# Altium schematic symbol library SL_Transistors.SchLib: 5 symbols
Pins are listed as number, name and electrical type; pins without a type are passive.

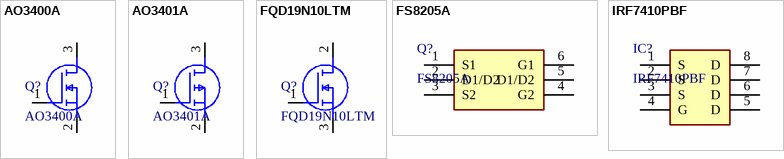
[diagram p0: symbols AO3400A to IRF7410PBF]

## AO3400A
designator Q?
MOSFET (N-Channel); Manufacturer_Name: Alpha & Omega Semiconductors; Datasheet Link: http://aosmd.com/res/data_sheets/AO3400A.pdf; Height: 1.25mm; Manufacturer_Part_Number: AO3400A; Arrow Part Number: AO3400A; Arrow Price/Stock: https://www.arrow.com/en/products/ao3400a/alpha-and-omega-semiconductor?region=nac
footprint SOT95P280X125-3N
pins: 1 G, 2 S, 3 D

## AO3401A
designator Q?
MOSFET (P-Channel); Manufacturer_Name: Alpha & Omega Semiconductors; Datasheet Link: http://www.aosmd.com/pdfs/datasheet/AO3401A.pdf; Height: 1.25mm; Manufacturer_Part_Number: AO3401A; Arrow Part Number: AO3401A; Arrow Price/Stock: https://www.arrow.com/en/products/ao3401a/alpha-and-omega-semiconductor?region=nac
footprint SOT95P280X125-3N
pins: 1 G, 2 S, 3 D

## FQD19N10LTM
designator Q?
MOSFET (N-Channel); Manufacturer_Name: onsemi; Datasheet Link: https://www.onsemi.com/pub/Collateral/FQD19N10L-D.PDF; Height: 2.517mm; Manufacturer_Part_Number: FQD19N10LTM; Mouser Part Number: 512-FQD19N10LTM; Mouser Price/Stock: https://www.mouser.com/Search/Refine.aspx?Keyword=512-FQD19N10LTM; Arrow Part Number: FQD19N10LTM; Arrow Price/Stock: https://www.arrow.com/en/products/fqd19n10ltm/on-semiconductor?region=nac
footprint FQD19N10LTM
pins: 1 G, 2 D, 3 S

## FS8205A
designator Q?
MOSFET (N-Channel); Manufacturer_Name: TECH PUBLIC; Datasheet Link: http://www.techpublic.com.tw/pdf/FS8205A.pdf; Height: 1.25mm; Manufacturer_Part_Number: FS8205A
footprint SOT95P280X125-6N
pins: 1 S1, 2 D1/D2, 3 S2, 4 G2, 5 D1/D2, 6 G1

## IRF7410PBF
designator IC?
MOSFET (P-Channel); Manufacturer_Name: Infineon; Datasheet Link: https://www.mouser.com/datasheet/2/196/irf7410pbf-1227435.pdf; Height: 1.75mm; Manufacturer_Part_Number: IRF7410PBF; Mouser Part Number: 942-IRF7410PBF; Mouser Price/Stock: https://www.mouser.co.uk/ProductDetail/Infineon-Technologies/IRF7410PBF?qs=viZOYRqmkgGgMgyEZVmEFA%3D%3D; Arrow Part Number: IRF7410PBF; Arrow Price/Stock: https://www.arrow.com/en/products/irf7410pbf/infineon-technologies-ag
footprint SOIC127P600X175-8N
pins: 1 S, 2 S, 3 S, 4 G, 5 D, 6 D, 7 D, 8 D